# Altium footprint library SMD Capasitor.PcbLib: 23 footprints (part 2 of 2)
Each footprint in its own frame and in the unit in brackets; x right, y up, seen from the top. Pads: shape width x height; smd on the part's side, far side on the other; paste and mask are expansions set on the pad; w line width, h text height; cw(c..) or ccw(c..) is an arc to the next point about the centre after c.
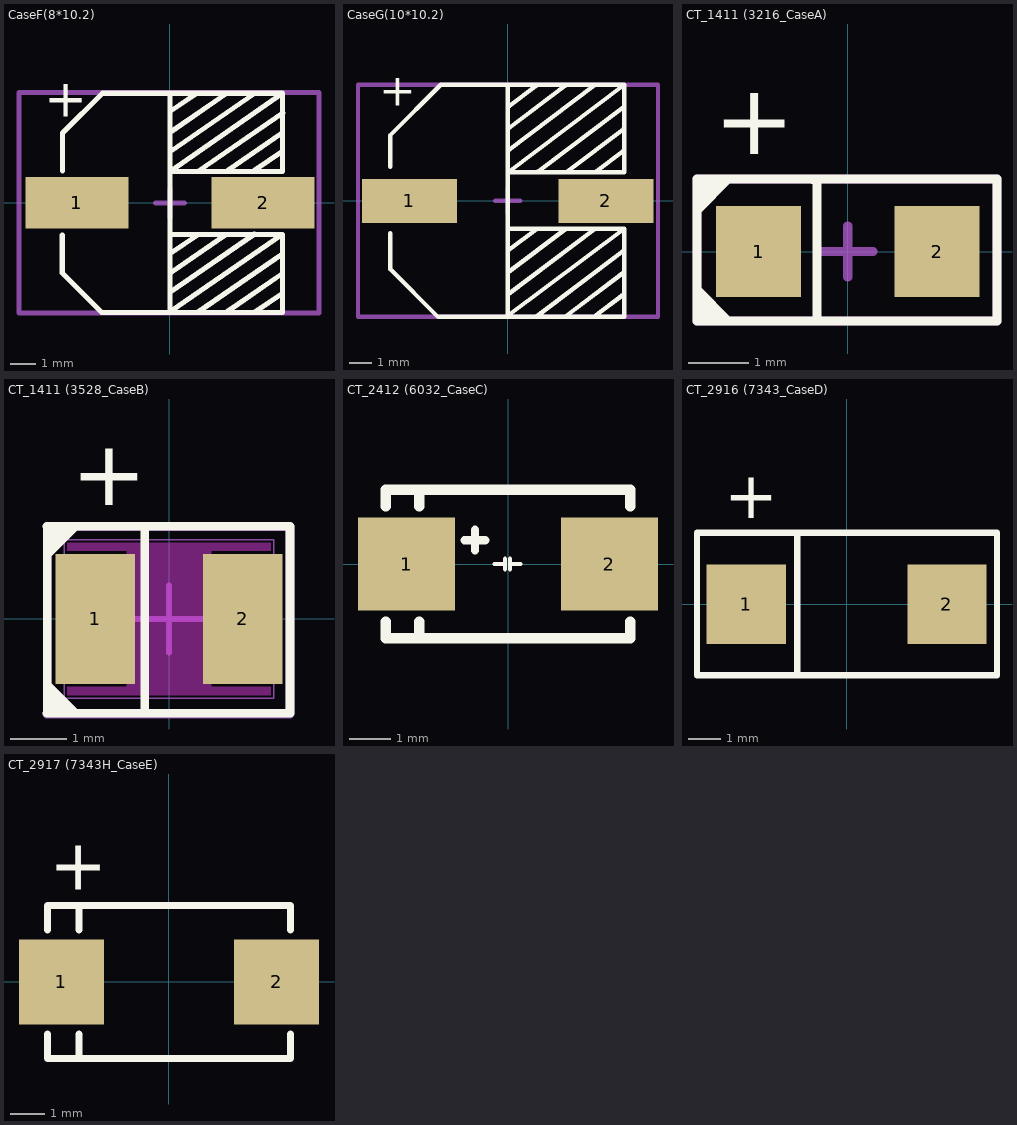
[diagram p1: the footprints below, top view; thin cyan lines are the x and y axes]

## CaseF(8*10.2) [mm] "Electrolytic Capacitor SMD Case"
pads (2):
  rect 4x2 smd: 1(-3.6,0) 2(3.6,0)
Top Overlay:
  lines w0.2: -4.167,-1.245 -4.167,-2.716 -2.642,-4.242 4.351,-4.242 4.351,-1.219 ; -4.155,1.245 -4.155,2.703 -2.616,4.242 4.357,4.242 ; 0,4.242 0,0 0,-4.216 4.351,-1.219 ; 0.002,-3.459 3.261,-1.215 ; 0.006,3.534 1.051,4.235 ; 0.014,1.986 3.273,4.231 ; 0.022,-1.949 1.096,-1.223 ; 0.025,-1.219 4.351,-1.219 ; 0.066,2.777 2.125,4.195 ; 0.071,-2.678 2.13,-1.259 ; 1.072,-4.233 4.331,-1.989 ; 1.104,1.23 4.362,3.475 ; 2.234,-4.189 4.293,-2.771 ; 2.245,1.266 4.304,2.684 ; 3.269,-4.231 4.343,-3.505 ; 3.274,1.268 4.348,1.994 ; 4.357,4.242 4.357,1.219 0.025,1.219 4.357,4.242
  text "+" at -4.87,2.84 h2.5
Mechanical 15:
  lines w0.2: -0.559,0 0.559,0 ; 0,-0.559 0,0.559 ; -5.842,-4.267 5.766,-4.267 5.766,4.267 4.41,4.267 -5.842,4.267 -5.842,-4.267
3D body "User Library-ALU-F.STEP": height 10.2, standoff 0, extent -4.867,-4.15 5.033,4.15

## CaseG(10*10.2) [mm] "Electrolytic Capacitor SMD Case"
pads (2):
  rect 4.3x2 smd: 1(-4.45,0) 2(4.45,0)
Top Overlay:
  lines w0.2: -5.314,-1.46 -5.314,-3.099 -3.155,-5.258 5.275,-5.258 5.275,-1.27 ; -5.314,1.549 -5.314,2.978 -3.034,5.258 5.275,5.258 ; 0,-1.27 5.275,-1.27 ; 0,5.232 0,0 0,-5.207 5.275,-1.27 ; 0.028,-4.22 3.924,-1.279 ; 0.036,-3.224 2.59,-1.296 ; 0.039,2.294 3.935,5.235 ; 0.047,3.29 2.602,5.218 ; 0.052,-2.223 1.302,-1.279 ; 0.064,4.291 1.261,5.195 ; 1.301,-5.239 5.242,-2.264 ; 1.388,1.332 5.254,4.25 ; 2.631,-5.226 5.228,-3.266 ; 2.685,1.32 5.239,3.248 ; 3.908,-5.253 5.25,-4.24 ; 4.02,1.336 5.217,2.24 ; 5.275,5.258 0.023,1.293 5.275,1.293 5.275,5.258
  text "+" at -5.822,3.83 h2.5
Mechanical 15:
  lines w0.2: -0.559,0 0.559,0 ; 0,-0.559 0,0.559 ; -6.782,-5.258 -6.782,5.258 6.807,5.258 6.807,3.404 6.807,-5.258 -6.782,-5.258
3D body "User Library-ALU-G.STEP": height 10.2, standoff 0, extent -5.805,-5.15 5.795,5.15

## CT_1411 (3216_CaseA) [mm]
height 2
pads (2):
  rect 1.4x1.5 smd: 1(-1.473,0) 2(1.473,0)
Top Overlay:
  region: -2.489,-1.15 -2.489,-0.535 -1.874,-1.15
  region: -2.489,1.2 -1.874,1.2 -2.489,0.584
  lines w0.15: -0.584,1.194 -0.508,1.194 -0.508,-1.143 ; -2.489,-1.15 -2.489,1.2 -1.925,1.2 1.875,1.2 2.464,1.2 2.464,-1.15 1.875,-1.15 -1.925,-1.15 -2.489,-1.15
  text "+" at -2.21,1.215 h2
Mechanical 15:
  lines w0.15: -0.584,1.194 -0.508,1.194 ; -0.419,0 0.419,0 ; 0,-0.419 0,0.419 ; -2.489,-1.15 -2.489,1.2 -1.925,1.2 1.875,1.2 2.464,1.2 2.464,-1.15 1.875,-1.15 -1.925,-1.15 -2.489,-1.15
3D body "User Library-CAP_TANT_3216-18_A_case-1.STEP": height 1.7, standoff 0, extent -1.7,-0.9 1.7,0.9

## CT_1411 (3528_CaseB) [mm]
height 2
pads (2):
  rect 1.405x2.3 smd paste+0 mask+0: 1(-1.3,0) 2(1.3,0)
Top Layer keep-out:
  region: -1.799,-1.349 -1.799,-1.201 1.799,-1.201 1.799,-1.349
  region: -1.799,1.201 -1.799,1.349 1.799,1.349 1.799,1.201
  region: -0.746,-1.201 -0.746,1.201 0.746,1.201 0.746,-1.201
Top Overlay:
  region: -2.155,1.641 -1.549,1.638 -2.155,1.033
  region: -2.155,-1.667 -2.152,-1.061 -1.546,-1.667
  lines w0.15: -2.155,-1.667 -2.155,1.641 ; -0.432,1.638 -0.432,-1.638 -0.406,-1.664
  lines w0.152: -2.155,-1.667 2.138,-1.667 2.138,1.641 -2.155,1.641
  text "+" at -1.727,1.621 h2
Keep-Out Layer:
  region: -0.746,-1.201 -0.746,1.201 0.746,1.201 0.746,-1.201
Mechanical 13:
  lines w0.025: -1.85,-1.4 -1.85,1.4 1.85,1.4 1.85,-1.4 -1.85,-1.4
Mechanical 15:
  lines w0.1: -0.597,0 0.597,0 ; 0,-0.597 0,0.597
  lines w0.15: -2.155,-1.679 -2.155,1.629
  lines w0.152: -2.155,-1.679 2.138,-1.679 2.138,1.629 -2.155,1.629
3D body "User Library-CaseB_3528-21.STEP": height 1.9, standoff 0, extent -1.757,-1.4 1.743,1.4

## CT_2412 (6032_CaseC) [mm]
height 5.08
pads (2):
  rect 2.35x2.25 smd: 1(-2.45,0) 2(2.45,0)
Top Overlay:
  lines w0.1: -0.33,0 -0.076,0 ; -0.076,-0.127 -0.076,0.127 ; 0.051,-0.127 0.051,0.127 ; 0.051,0 0.305,0
  lines w0.2: -1.05,0.575 -0.55,0.575 ; -0.8,0.325 -0.8,0.825
  lines w0.254: -2.95,-1.4 -2.95,-1.8 2.95,-1.8 2.95,-1.4 ; -2.95,1.4 -2.95,1.8 2.95,1.8 2.95,1.4 ; -2.15,-1.8 -2.15,-1.4 ; -2.15,1.4 -2.15,1.8
3D body "User Library-CaseC_6032-28.STEP": height 2.5, standoff 0, extent -3,-1.6 3,1.6

## CT_2916 (7343_CaseD) [mm]
height 2
pads (2):
  rect 2.45x2.45 smd: 1(-3.1,0) 2(3.1,0)
Top Overlay:
  lines w0.2: -1.524,-2.134 -1.524,2.184 ; -4.623,-2.2 -4.623,2.2 3.5,2.2 4.648,2.2 4.648,-2.2 3.5,-2.2 -3.5,-2.2 -4.623,-2.2
  text "+" at -3.785,2.179 h2.5
3D body "User Library-CaseD_7343-31.STEP": height 2.8, standoff 0, extent -3.599,-2.15 3.701,2.15

## CT_2917 (7343H_CaseE) [mm]
height 2
pads (2):
  rect 2.45x2.45 smd: 1(-3.1,0) 2(3.1,0)
Top Overlay:
  lines w0.2: -3.5,-1.5 -3.5,-2.2 3.5,-2.2 3.5,-1.5 ; -3.5,1.5 -3.5,2.2 3.5,2.2 3.5,1.5 ; -2.6,-2.2 -2.6,-1.5 ; -2.6,1.5 -2.6,2.2
  text "+" at -3.454,2.179 h2.5
3D body "User Library-AVX_E_CASE.step": height 4.2, standoff 0, extent -3.7,-2.225 3.7,2.225